# Altium footprint library cube_PCBLib.PcbLib: 4 footprints
Each footprint in its own frame and in the unit in brackets; x right, y up, seen from the top. Pads: shape width x height; smd on the part's side, far side on the other; paste and mask are expansions set on the pad; w line width, h text height; cw(c..) or ccw(c..) is an arc to the next point about the centre after c.
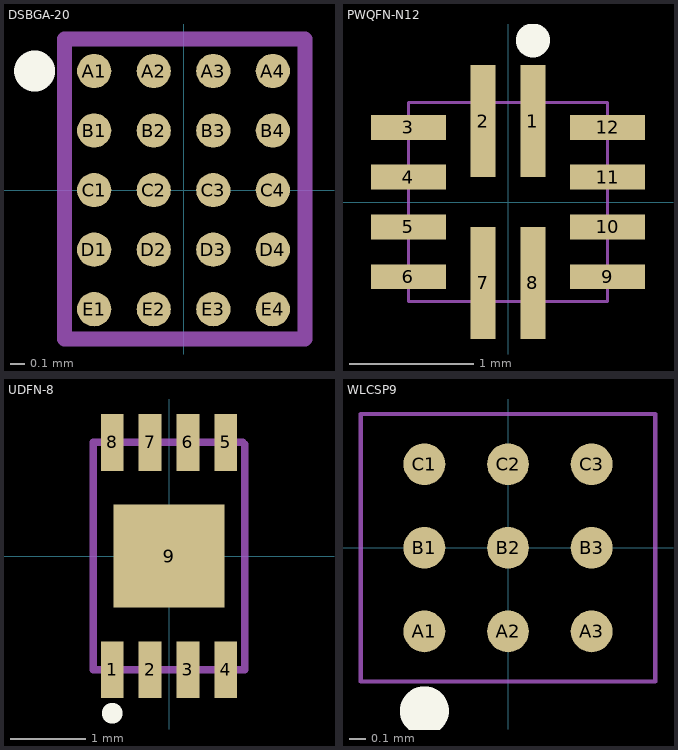
[diagram p0: the footprints below, top view; thin cyan lines are the x and y axes]

## DSBGA-20 [mm]
pads (20):
  round 0.23 smd mask+0.05: A1(-0.6,0.8) A2(-0.2,0.8) A3(0.2,0.8) A4(0.6,0.8) B1(-0.6,0.4) B2(-0.2,0.4) B3(0.2,0.4) B4(0.6,0.4) C1(-0.6,0) C2(-0.2,0) C3(0.2,0) C4(0.6,0) D1(-0.6,-0.4) D2(-0.2,-0.4) D3(0.2,-0.4) D4(0.6,-0.4) E1(-0.6,-0.8) E2(-0.2,-0.8) E3(0.2,-0.8) E4(0.6,-0.8)
Top Overlay:
  circle w0.254: c-1,0.8 r0.01
Mechanical 1:
  lines w0.1: -0.8,-1 -0.8,1.015 0.815,1.015 0.815,-1 -0.8,-1
3D body "BQ21061YFPR.STEP": height 0.32, standoff -0.18, extent -0.779,-0.979 0.779,0.979

## PWQFN-N12 [mm]
pads (12):
  rect 0.2x0.9 smd mask+0.05: 1(0.2,0.65) 2(-0.2,0.65) 7(-0.2,-0.65) 8(0.2,-0.65)
  rect 0.6x0.2 smd mask+0.05: 3(-0.8,0.6) 4(-0.8,0.2) 5(-0.8,-0.2) 6(-0.8,-0.6) 9(0.8,-0.6) 10(0.8,-0.2) 11(0.8,0.2) 12(0.8,0.6)
Top Overlay:
  circle w0.254: c0.2,1.3 r0.01
Mechanical 1:
  lines w0.025: -0.8,-0.8 -0.8,0.8 0.8,0.8 0.8,-0.8 -0.8,-0.8
3D body: height 0.75, standoff 0.05, extent -0.8,-0.8 0.8,0.8

## UDFN-8 [mm]
pads (9):
  rect 0.3x0.75 smd mask+0.05: 1(-0.75,-1.5) 2(-0.25,-1.5) 3(0.25,-1.5) 4(0.75,-1.5) 5(0.75,1.5) 6(0.25,1.5) 7(-0.25,1.5) 8(-0.75,1.5)
  rect 1.46x1.36 smd mask+0.05: 9(0,0)
Top Overlay:
  circle w0.254: c-0.75,-2.075 r0.01
Mechanical 1:
  lines w0.1: 0.975,1.5 -1,1.5 -1,-1.5 1,-1.5 ; 1,1.475 1,-1.5 ; 1,-1.5 1,-1.5
3D body "User Library-UDFN-8_2X3_0,5.step": height 0.53, standoff 0, extent -1,-1.5 1,1.5

## WLCSP9 [mm] "3X3"
pads (9):
  round 0.25 smd: A1(-0.5,-0.5) A2(0,-0.5) A3(0.5,-0.5) B1(-0.5,0) B2(0,0) B3(0.5,0) C1(-0.5,0.5) C2(0,0.5) C3(0.5,0.5)
Top Overlay:
  lines w0.254: -0.485,-0.963 ccw(c-0.5,-0.975) -0.481,-0.975
Mechanical 1:
  lines w0.025: -0.88,-0.8 -0.88,0.8 0.88,0.8 0.88,-0.8 -0.88,-0.8
3D body: height 0.51, standoff 0.14, extent -0.88,-0.8 0.88,0.8